# Altium schematic symbol library WE-CNSA.SchLib: 8 symbols
Pins are listed as number, name and electrical type; pins without a type are passive.

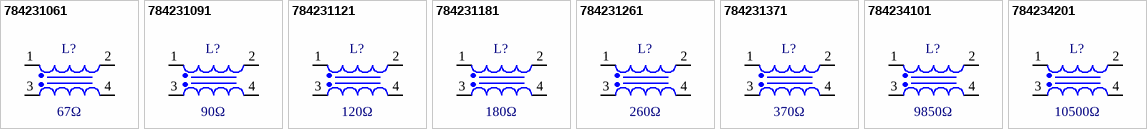
[diagram p0: symbols 784231061 to 784234201]

## 784231061
designator L?, comment 67Ω
WE-CNSA Common Mode Line Filter, SMT, size 0805, 67Ω, 400mA; Manufacturer Part Number: 784231061; Manufacturer: Wurth Elektronik; Case/Size Code: 0805; DC Resistance Max: 0.25Ω; Impedance @10MHz: 10Ω; Inductance: 0.088μH; Winding Style: bifiliar; Category: Common Mode Chokes; Match Code: WE-CNSA; ComponentLink1Description: Website Link; ComponentLink1URL: https://www.we-online.com/redexpert/article/784231061?ad; ComponentLink2Description: Datasheet Link; ComponentLink2URL: https://www.we-online.com/redexpert/spec/784231061?ad; Mount: Surface Mount; Min Operating Temperature: -40°C; Max Operating Temperature: 125°C; Packaging: Tape and Reel; Length: 2mm; Width: 1.2mm; Height: 1.2mm; Automotive: Yes; Impedance @100MHz: 67Ω; Rated Current: 400mA
footprint WE-CNSA_0805
simulation model 0805_784231061_67ohm
pins: 1, 2, 3, 4

## 784231091
designator L?, comment 90Ω
WE-CNSA Common Mode Line Filter, SMT, size 0805, 90Ω, 370mA; Manufacturer Part Number: 784231091; Manufacturer: Wurth Elektronik; Case/Size Code: 0805; DC Resistance Max: 0.3Ω; Impedance @10MHz: 12Ω; Inductance: 0.131μH; Winding Style: bifiliar; Category: Common Mode Chokes; Match Code: WE-CNSA; ComponentLink1Description: Website Link; ComponentLink1URL: https://www.we-online.com/redexpert/article/784231091?ad; ComponentLink2Description: Datasheet Link; ComponentLink2URL: https://www.we-online.com/redexpert/spec/784231091?ad; Mount: Surface Mount; Min Operating Temperature: -40°C; Max Operating Temperature: 125°C; Packaging: Tape and Reel; Length: 2mm; Width: 1.2mm; Height: 1.2mm; Automotive: Yes; Impedance @100MHz: 90Ω; Rated Current: 370mA
footprint WE-CNSA_0805
simulation model 0805_784231091_90ohm
pins: 1, 2, 3, 4

## 784231121
designator L?, comment 120Ω
WE-CNSA Common Mode Line Filter, SMT, size 0805, 120Ω, 370mA; Manufacturer Part Number: 784231121; Manufacturer: Wurth Elektronik; Case/Size Code: 0805; DC Resistance Max: 0.3Ω; Impedance @10MHz: 18Ω; Inductance: 0.166μH; Winding Style: bifiliar; Category: Common Mode Chokes; Match Code: WE-CNSA; ComponentLink1Description: Website Link; ComponentLink1URL: https://www.we-online.com/redexpert/article/784231121?ad; ComponentLink2Description: Datasheet Link; ComponentLink2URL: https://www.we-online.com/redexpert/spec/784231121?ad; Mount: Surface Mount; Min Operating Temperature: -40°C; Max Operating Temperature: 125°C; Packaging: Tape and Reel; Length: 2mm; Width: 1.2mm; Height: 1.2mm; Automotive: Yes; Impedance @100MHz: 120Ω; Rated Current: 370mA
footprint WE-CNSA_0805
simulation model 0805_784231121_120ohm
pins: 1, 2, 3, 4

## 784231181
designator L?, comment 180Ω
WE-CNSA Common Mode Line Filter, SMT, size 0805, 180Ω, 330mA; Manufacturer Part Number: 784231181; Manufacturer: Wurth Elektronik; Case/Size Code: 0805; DC Resistance Max: 0.35Ω; Impedance @10MHz: 28Ω; Inductance: 0.252μH; Winding Style: bifiliar; Category: Common Mode Chokes; Match Code: WE-CNSA; ComponentLink1Description: Website Link; ComponentLink1URL: https://www.we-online.com/redexpert/article/784231181?ad; ComponentLink2Description: Datasheet Link; ComponentLink2URL: https://www.we-online.com/redexpert/spec/784231181?ad; Mount: Surface Mount; Min Operating Temperature: -40°C; Max Operating Temperature: 125°C; Packaging: Tape and Reel; Length: 2mm; Width: 1.2mm; Height: 1.2mm; Automotive: Yes; Impedance @100MHz: 180Ω; Rated Current: 330mA
footprint WE-CNSA_0805
simulation model 0805_784231181_180ohm
pins: 1, 2, 3, 4

## 784231261
designator L?, comment 260Ω
WE-CNSA Common Mode Line Filter, SMT, size 0805, 260Ω, 300mA; Manufacturer Part Number: 784231261; Manufacturer: Wurth Elektronik; Case/Size Code: 0805; DC Resistance Max: 0.4Ω; Impedance @10MHz: 36Ω; Inductance: 0.367μH; Winding Style: bifiliar; Category: Common Mode Chokes; Match Code: WE-CNSA; ComponentLink1Description: Website Link; ComponentLink1URL: https://www.we-online.com/redexpert/article/784231261?ad; ComponentLink2Description: Datasheet Link; ComponentLink2URL: https://www.we-online.com/redexpert/spec/784231261?ad; Mount: Surface Mount; Min Operating Temperature: -40°C; Max Operating Temperature: 125°C; Packaging: Tape and Reel; Length: 2mm; Width: 1.2mm; Height: 1.2mm; Automotive: Yes; Impedance @100MHz: 260Ω; Rated Current: 300mA
footprint WE-CNSA_0805
simulation model 0805_784231261_260ohm
pins: 1, 2, 3, 4

## 784231371
designator L?, comment 370Ω
WE-CNSA Common Mode Line Filter, SMT, size 0805, 370Ω, 280mA; Manufacturer Part Number: 784231371; Manufacturer: Wurth Elektronik; Case/Size Code: 0805; DC Resistance Max: 0.45Ω; Impedance @10MHz: 54Ω; Inductance: 0.478μH; Winding Style: bifiliar; Category: Common Mode Chokes; Match Code: WE-CNSA; ComponentLink1Description: Website Link; ComponentLink1URL: https://www.we-online.com/redexpert/article/784231371?ad; ComponentLink2Description: Datasheet Link; ComponentLink2URL: https://www.we-online.com/redexpert/spec/784231371?ad; Mount: Surface Mount; Min Operating Temperature: -40°C; Max Operating Temperature: 125°C; Packaging: Tape and Reel; Length: 2mm; Width: 1.2mm; Height: 1.2mm; Automotive: Yes; Impedance @100MHz: 370Ω; Rated Current: 280mA
footprint WE-CNSA_0805
simulation model 0805_784231371_370ohm
pins: 1, 2, 3, 4

## 784234101
designator L?, comment 9850Ω
WE-CNSA Common Mode Line Filter, SMT, size 1210, 9850Ω, 100mA; Manufacturer Part Number: 784234101; Manufacturer: Wurth Elektronik; Case/Size Code: 1210; DC Resistance Max: 3.36Ω; Impedance @10MHz: 4890Ω; Inductance: 100μH; Winding Style: bifilar; Category: Common Mode Chokes; Match Code: WE-CNSA; ComponentLink1Description: Website Link; ComponentLink1URL: https://www.we-online.com/redexpert/article/784234101?ad; ComponentLink2Description: Datasheet Link; ComponentLink2URL: https://www.we-online.com/redexpert/spec/784234101?ad; Mount: Surface Mount; Min Operating Temperature: -40°C; Max Operating Temperature: 125°C; Packaging: Tape and Reel; Length: 3.2mm; Width: 2.5mm; Height: 2.5mm; Automotive: Yes; Impedance @100MHz: 9850Ω; Rated Current: 100mA
footprint WE-CNSA_1210
simulation model 1210_784234101_100u
pins: 1, 2, 3, 4

## 784234201
designator L?, comment 10500Ω
WE-CNSA Common Mode Line Filter, SMT, size 1210, 10500Ω, 70mA; Manufacturer Part Number: 784234201; Manufacturer: Wurth Elektronik; Case/Size Code: 1210; DC Resistance Max: 5.5Ω; Impedance @10MHz: 10640Ω; Inductance: 200μH; Winding Style: bifilar; Category: Common Mode Chokes; Match Code: WE-CNSA; ComponentLink1Description: Website Link; ComponentLink1URL: https://www.we-online.com/redexpert/article/784234201?ad; ComponentLink2Description: Datasheet Link; ComponentLink2URL: https://www.we-online.com/redexpert/spec/784234201?ad; Mount: Surface Mount; Min Operating Temperature: -40°C; Max Operating Temperature: 125°C; Packaging: Tape and Reel; Length: 3.2mm; Width: 2.5mm; Height: 2.5mm; Automotive: Yes; Impedance @100MHz: 10500Ω; Rated Current: 70mA
footprint WE-CNSA_1210
simulation model 1210_784234201_200u
pins: 1, 2, 3, 4